# EAGLE library part AD8034 (library 0SBLib)
Low Cost, 80 MHz FastFET Op Amps
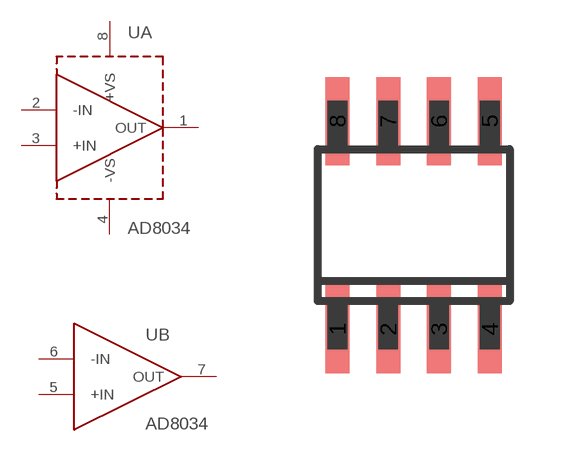
[diagram p12: symbol with the pads of SO-08; footprint SO-08]

Designator prefix -; gates A=AD8034 B=AOP

## AD8034  [SO-08]
1  A:OUT
2  A:-IN
3  A:+IN
4  A:-VS
5  B:+IN
6  B:-IN
7  B:OUT
8  A:+VS

## Footprint SO-08 (pad centres in mm)
Small Outline Narrow Plastic Gull Wing 150-mil body, package type SN
smd 0.6 x 2.2: 1 -1.905,-2.6; 2 -0.635,-2.6; 3 0.635,-2.6; 4 1.905,-2.6; 5 1.905,2.6; 6 0.635,2.6; 7 -0.635,2.6; 8 -1.905,2.6